# Altium footprint library NFC_ANTENNA.PcbLib: 1 footprints
Each footprint in its own frame and in the unit in brackets; x right, y up, seen from the top. Pads: shape width x height; smd on the part's side, far side on the other; paste and mask are expansions set on the pad; w line width, h text height; cw(c..) or ccw(c..) is an arc to the next point about the centre after c.
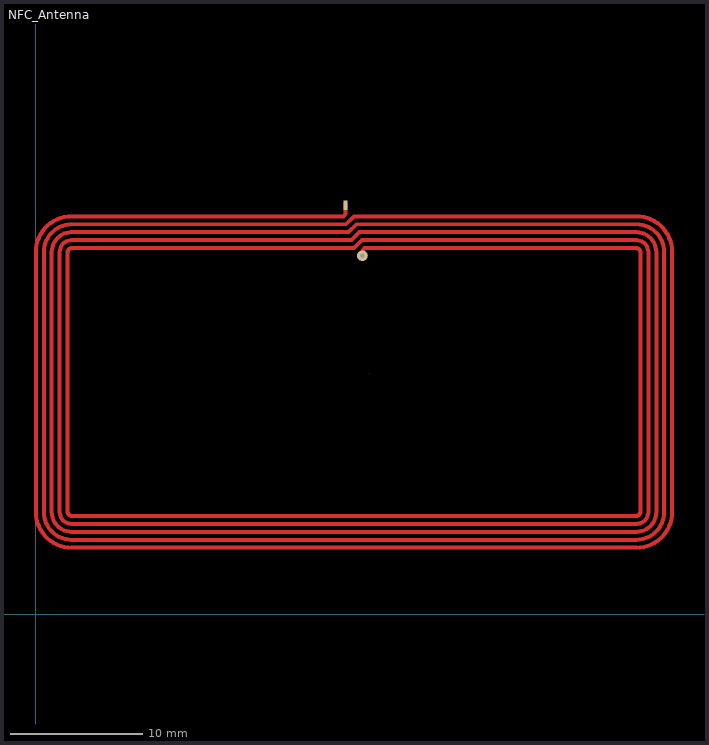
[diagram p0: the footprint, top view; thin cyan lines are the x and y axes]

## NFC_Antenna [mm]
pads (2):
  rect 0.3x0.75 smd paste+0 mask+0.051: P$1(23.388,30.858)
  round 0.808 hole 0.3 paste-2539.97 mask+0.051: P$2(24.658,27.048)
Top Layer:
  lines w0.3: 0.623,7.723 0.623,27.323 ; 0.623,7.723 ccw(c2.723,7.723) 2.723,5.623 45.323,5.623 ccw(c45.323,7.723) 47.423,7.723 47.423,27.323 ccw(c45.323,27.323) 45.323,29.423 24.223,29.423 23.623,28.823 2.723,28.823 ccw(c2.723,27.323) 1.223,27.323 1.223,7.723 ccw(c2.723,7.723) 2.723,6.223 45.323,6.223 ccw(c45.323,7.723) 46.823,7.723 46.823,27.323 ccw(c45.323,27.323) 45.323,28.823 24.423,28.823 23.823,28.223 2.723,28.223 ccw(c2.723,27.323) 1.823,27.323 1.823,7.723 ccw(c2.723,7.723) 2.723,6.823 45.323,6.823 ccw(c45.323,7.723) 46.223,7.723 46.223,27.323 ccw(c45.323,27.323) 45.323,28.223 24.623,28.223 24.023,27.623 2.723,27.623 ccw(c2.723,27.323) 2.423,27.323 2.423,7.723 ccw(c2.723,7.723) 2.723,7.423 45.323,7.423 ccw(c45.323,7.723) 45.623,7.723 45.623,27.323 ccw(c45.323,27.323) 45.323,27.623 24.823,27.623 24.658,27.458 24.658,27.048 ; 0.623,27.323 cw(c2.723,27.323) 2.723,29.423 23.423,29.423 24.023,30.023 45.323,30.023 cw(c45.323,27.323) 48.023,27.323 48.023,7.723 cw(c45.323,7.723) 45.323,5.023 2.723,5.023 cw(c2.723,7.723) 0.023,7.723 0.023,27.323 cw(c2.723,27.323) 2.723,30.023 23.223,30.023 23.388,30.188 23.388,30.858 23.388,30.985
Mechanical 15:
  lines w0.003: 25.229,18.18 25.23,18.18